# EAGLE library part MPRLS0025PA00001A (library ICs)
Pressure Sensor 25PSI (172.37kPa) Absolute 24 b 10-SMD Module
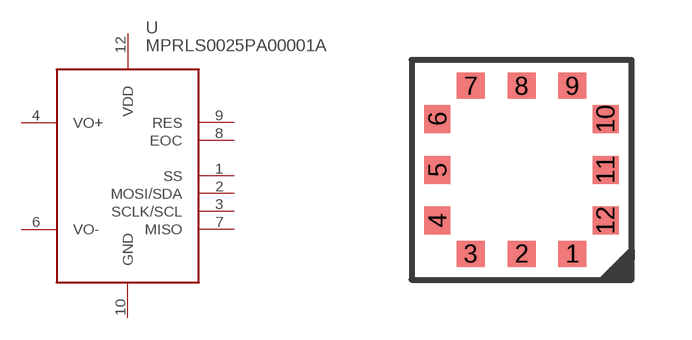
[diagram p217: symbol with the pads of MPR_PRESSURE; footprint MPR_PRESSURE]

Designator prefix U

## MPRLS0025PA00001A (DIGIKEY: 480-7098-1-ND; HEIGHT: 5.8; PRICE_PER: 7.63; VALUE: MPR 25PSI)  [MPR_PRESSURE]
1  SS
2  MOSI/SDA
3  SCLK/SCL
4  VO+
6  VO-
7  MISO
8  EOC
9  RES
10  GND
12  VDD

## Footprint MPR_PRESSURE (pad centres in mm)
smd 0.7 x 0.65: 1 1.27,-2.1; 2 0,-2.1; 3 -1.27,-2.1; 7 -1.27,2.1; 8 0,2.1; 9 1.27,2.1
smd 0.65 x 0.7: 4 -2.1,-1.27; 5 -2.1,0; 6 -2.1,1.27; 10 2.1,1.27; 11 2.1,0; 12 2.1,-1.27